# Altium footprint library Protel 99SE BANKS PCB.PCBLIB: 278 footprints (part 14 of 18)
Each footprint in its own frame and in the unit in brackets; x right, y up, seen from the top. Pads: shape width x height; smd on the part's side, far side on the other; paste and mask are expansions set on the pad; w line width, h text height; cw(c..) or ccw(c..) is an arc to the next point about the centre after c.
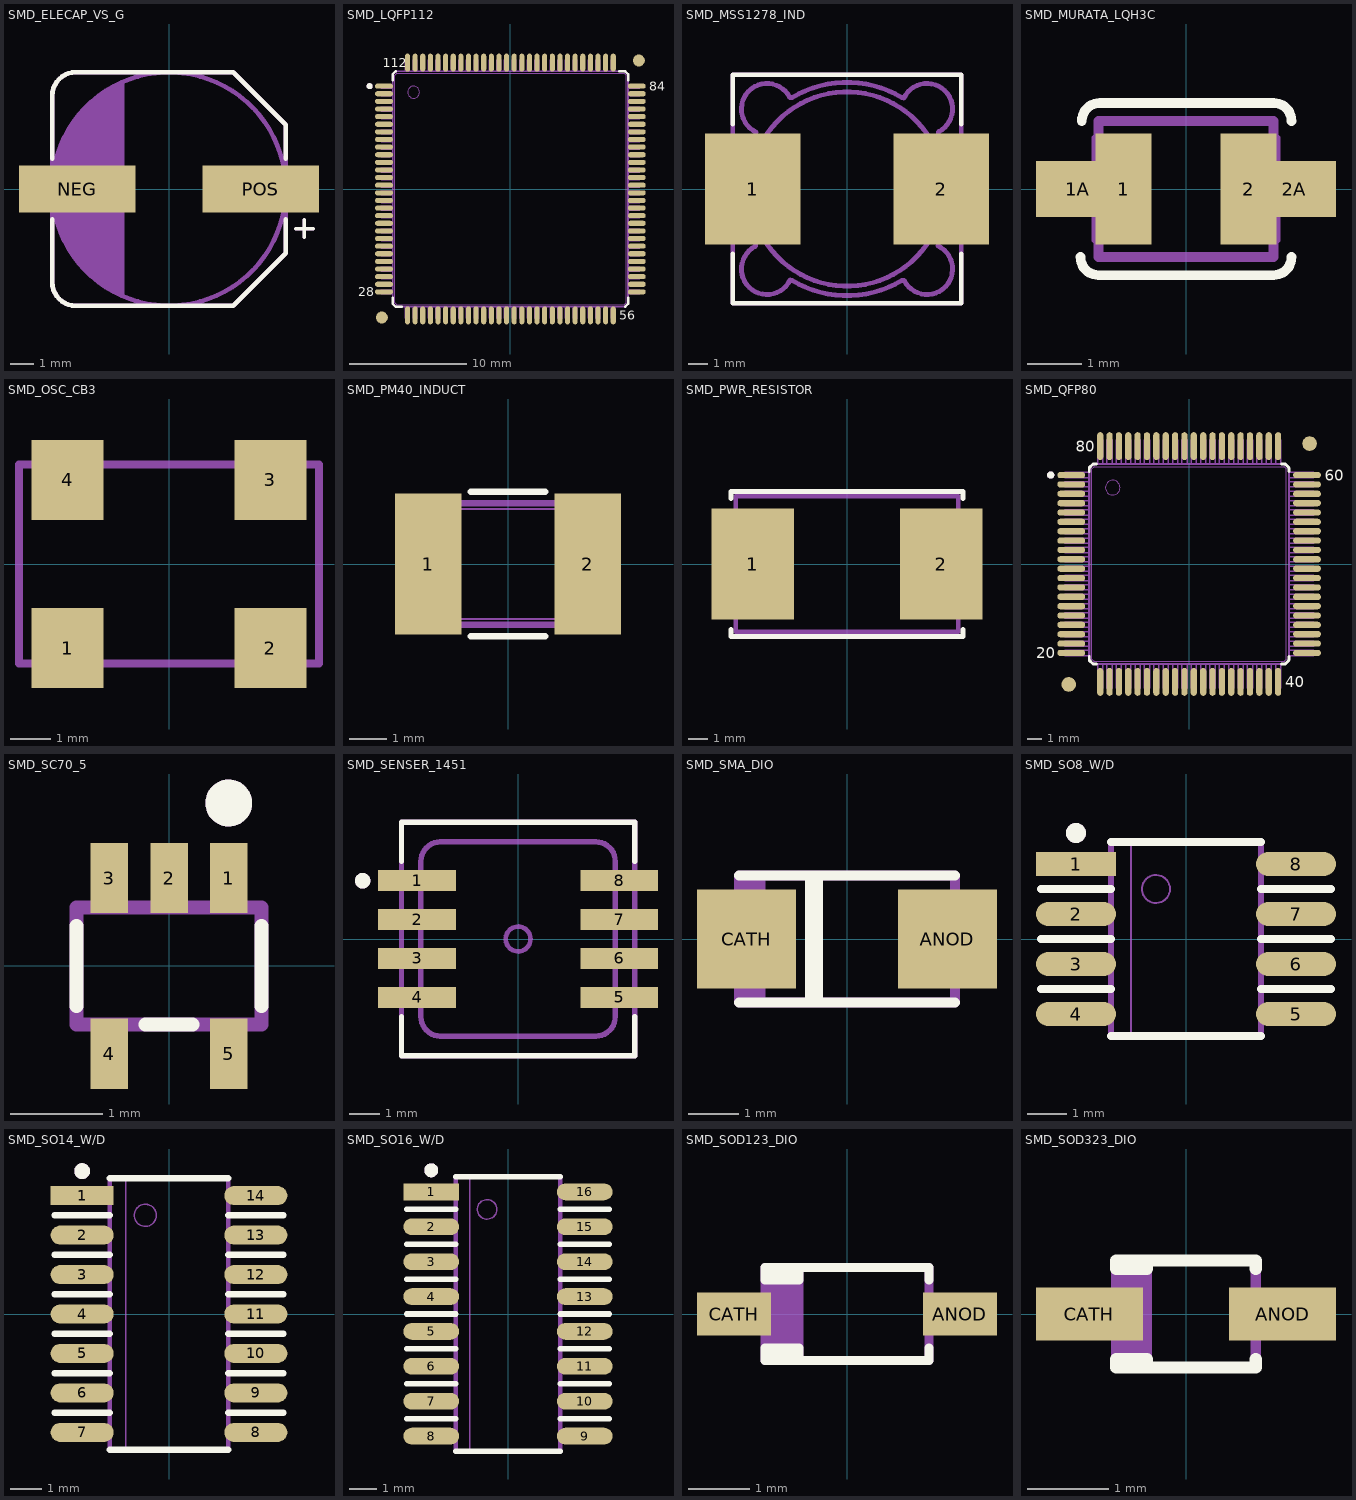
[diagram p13: the footprints below, top view; thin cyan lines are the x and y axes]

## SMD_ELECAP_VS_G [mil]
pads (2):
  rect 200x80 smd: NEG(-157,0) POS(157,0)
TopOverlay:
  lines w6: 217,-68 247,-68 ; 232,-83 232,-53
  lines w8: -200,-52 -200,-160 ccw(c-160,-160) -160,-200 110,-200 200,-110 200,-52 ; -200,52 -200,160 cw(c-160,160) -160,200 110,200 200,110 200,52
Mechanical3:
  circle w8: c0,0 r200
  lines w4: -200,-18 -227,-18 -227,18 -200,18 ; 200,-18 227,-18 227,18 200,18
  lines w6: 217,-68 247,-68 ; 232,-83 232,-53
  lines w8: -197,-32 -197,0 -197,32 ; -195,-36 -195,0 -195,36 ; -191,-45 -191,0 -191,45 ; -188,-55 -188,0 -188,55 ; -184,-66 -184,0 -184,66 ; -180,-79 -180,0 -180,79 ; -176,-89 -176,0 -176,89 ; -172,-97 -172,0 -172,97 ; -168,-104 -168,0 -168,104 ; -163,-111 -163,0 -163,111 ; -159,-116 -159,0 -159,116 ; -155,-120 -155,0 -155,120 ; -151,-126 -151,0 -151,126 ; -147,-130 -147,0 -147,130 ; -143,-135 -143,0 -143,135 ; -139,-138 -139,-1 ; -139,1 -139,138 ; -136,-142 -136,0 -136,142 ; -132,-146 -132,0 -132,146 ; -128,-149 -128,0 -128,149 ; -124,-153 -124,0 -124,153 ; -120,-156 -120,0 -120,156 ; -116,-159 -116,0 -116,159 ; -112,-161 -112,0 -112,161 ; -108,-166 -108,0 -108,166 ; -104,-167 -104,0 -104,167 ; -100,-170 -100,0 -100,170 ; -96,-173 -96,0 -96,173 ; -92,-175 -92,0 -92,175 ; -88,-176 -88,0 -88,176 ; -84,-181 -84,0 -84,181 ; -80,-182 -80,0 -80,182 ; -200,-160 ccw(c-160,-160) -160,-200 110,-200 200,-110 200,110 110,200 -160,200 ccw(c-160,160) -200,160 -200,-160

## SMD_LQFP112 [mil]
pads (114):
  oval 60x17 smd: 1(-423,344.25) 2(-423,318.75) 3(-423,293.25) 4(-423,267.75) 5(-423,242.25) 6(-423,216.75) 7(-423,191.25) 8(-423,165.75) 9(-423,140.25) 10(-423,114.75) 11(-423,89.25) 12(-423,63.75) 13(-423,38.25) 14(-423,12.75) 15(-423,-12.75) 16(-423,-38.25) 17(-423,-63.75) 18(-423,-89.25) 19(-423,-114.75) 20(-423,-140.25) 21(-423,-165.75) 22(-423,-191.25) 23(-423,-216.75) 24(-423,-242.25) 25(-423,-267.75) 26(-423,-293.25) 27(-423,-318.75) 28(-423,-344.25) 57(423,-344.25) 58(423,-318.75) 59(423,-293.25) 60(423,-267.75) 61(423,-242.25) 62(423,-216.75) 63(423,-191.25) 64(423,-165.75) 65(423,-140.25) 66(423,-114.75) 67(423,-89.25) 68(423,-63.75) 69(423,-38.25) 70(423,-12.75) 71(423,12.75) 72(423,38.25) 73(423,63.75) 74(423,89.25) 75(423,114.75) 76(423,140.25) 77(423,165.75) 78(423,191.25) 79(423,216.75) 80(423,242.25) 81(423,267.75) 82(423,293.25) 83(423,318.75) 84(423,344.25)
  oval 17x60 smd: 29(-344.25,-423) 30(-318.75,-423) 31(-293.25,-423) 32(-267.75,-423) 33(-242.25,-423) 34(-216.75,-423) 35(-191.25,-423) 36(-165.75,-423) 37(-140.25,-423) 38(-114.75,-423) 39(-89.25,-423) 40(-63.75,-423) 41(-38.25,-423) 42(-12.75,-423) 43(12.75,-423) 44(38.25,-423) 45(63.75,-423) 46(89.25,-423) 47(114.75,-423) 48(140.25,-423) 49(165.75,-423) 50(191.25,-423) 51(216.75,-423) 52(242.25,-423) 53(267.75,-423) 54(293.25,-423) 55(318.75,-423) 56(344.25,-423) 85(344.25,423) 86(318.75,423) 87(293.25,423) 88(267.75,423) 89(242.25,423) 90(216.75,423) 91(191.25,423) 92(165.75,423) 93(140.25,423) 94(114.75,423) 95(89.25,423) 96(63.75,423) 97(38.25,423) 98(12.75,423) 99(-12.75,423) 100(-38.25,423) 101(-63.75,423) 102(-89.25,423) 103(-114.75,423) 104(-140.25,423) 105(-165.75,423) 106(-191.25,423) 107(-216.75,423) 108(-242.25,423) 109(-267.75,423) 110(-293.25,423) 111(-318.75,423) 112(-344.25,423)
  round 40 smd: ""(-430,-430) ""(430,430)
TopOverlay:
  circle w8: c-471,344.25 r6
  lines w8: -475,344.25 -467,344.25 ; -471,340.25 -471,348.25 ; -394,-364 -394,-384 -384,-394 -364,-394 ; -394,364 -394,384 -384,394 ; 364,394 384,394 394,384 394,364 ; 384,-394 394,-384 394,-364
  text "112" at -428,408.25 h30
  text "28" at -510,-359 h30
  text "56" at 364,-437.75 h30
  text "84" at 464,329 h30
Mechanical3:
  drawing of 588 lines, arcs and shapes, not listed

## SMD_MSS1278_IND [mil] "Coilcraft MSS1278 SMD Inductor Series"
height 316.93
pads (2):
  rect 196.85x230 smd: 1(-195,0) 2(195,0)
TopOverlay:
  lines w10: -236.22,-133.86 -236.22,-236.22 236.22,-236.22 236.22,-133.86 ; -236.22,133.86 -236.22,236.22 236.22,236.22 236.22,133.86
Mechanical3:
  circle w10: c0,0 r200.79
  lines w10: -188.98,-118.11 ccw(c-165.35,-165.35) -117.4,-187.49 ; -188.71,-114.01 cw(c0,0) -188.71,114.01 ; -187.49,117.4 cw(c-165.35,165.35) -118.11,188.98 ; -114.01,-188.71 ccw(c0,0) 114.01,-188.71 ; -114.01,188.71 cw(c0,0) 114.01,188.71 ; 117.4,187.49 cw(c165.35,165.35) 188.98,118.11 ; 118.11,-188.98 ccw(c165.35,-165.35) 187.49,-117.4 ; 188.71,-114.01 ccw(c0,0) 188.71,114.01 ; -236.22,-236.22 -236.22,236.22 0,236.22 236.22,236.22 236.22,-236.22 0,-236.22 -236.22,-236.22

## SMD_MURATA_LQH3C [mil]
pads (4):
  rect 40x80 smd: 1(-45,0) 2(45,0)
  rect 60x40 smd: 1A(-78,0) 2A(78,0)
TopOverlay:
  lines w7: -76,-49 ccw(c-63,-49) -63,-62 63,-62 ccw(c63,-49) 76,-49 ; -75,49 cw(c-62,49) -62,62 63,62 cw(c63,49) 76,49
Mechanical3:
  lines w4: -61,-37 -66,-37 -66,37 -61,37 ; 61,-37 66,-37 66,37 61,37
  lines w7: -63,-49 -63,49 63,49 63,-49 -63,-49

## SMD_OSC_CB3 [mil]
pads (4):
  rect 71x79 smd: 1(-100,-83) 2(100,-83) 3(100,83) 4(-100,83)
Mechanical3:
  lines w8: -148,-98 148,-98 148,98 -148,98 -148,-98

## SMD_PM40_INDUCT [mil]
pads (2):
  rect 70x148 smd: 1(-84,0) 2(84,0)
TopOverlay:
  lines w7: -39,-76 39,-76 ; -39,76 39,76
Mechanical3:
  lines w2: -89,-64 -80,-58 ; -89,64 -80,58 ; 89,-64 80,-58 ; 89,64 80,58 ; -80,-58 80,-58 ; -80,-58 -80,58 ; -80,58 80,58 ; 80,-58 80,58
  lines w7: -89,-64 -89,64 89,64 89,-64 -89,-64

## SMD_PWR_RESISTOR [mil]
pads (2):
  rect 170x230 smd: 1(-195,0) 2(195,0)
TopOverlay:
  lines w10: -240,-135 -240,-150 240,-150 240,-135 ; -240,135 -240,150 240,150 240,135
Mechanical3:
  lines w10: -230,-140 230,-140 230,140 0,140 -230,140 -230,-140

## SMD_QFP80 [mil]
pads (82):
  oval 76x17 smd: 1(-321,242.25) 2(-321,216.75) 3(-321,191.25) 4(-321,165.75) 5(-321,140.25) 6(-321,114.75) 7(-321,89.25) 8(-321,63.75) 9(-321,38.25) 10(-321,12.75) 11(-321,-12.75) 12(-321,-38.25) 13(-321,-63.75) 14(-321,-89.25) 15(-321,-114.75) 16(-321,-140.25) 17(-321,-165.75) 18(-321,-191.25) 19(-321,-216.75) 20(-321,-242.25) 41(321,-242.25) 42(321,-216.75) 43(321,-191.25) 44(321,-165.75) 45(321,-140.25) 46(321,-114.75) 47(321,-89.25) 48(321,-63.75) 49(321,-38.25) 50(321,-12.75) 51(321,12.75) 52(321,38.25) 53(321,63.75) 54(321,89.25) 55(321,114.75) 56(321,140.25) 57(321,165.75) 58(321,191.25) 59(321,216.75) 60(321,242.25)
  oval 17x76 smd: 21(-242.25,-321) 22(-216.75,-321) 23(-191.25,-321) 24(-165.75,-321) 25(-140.25,-321) 26(-114.75,-321) 27(-89.25,-321) 28(-63.75,-321) 29(-38.25,-321) 30(-12.75,-321) 31(12.75,-321) 32(38.25,-321) 33(63.75,-321) 34(89.25,-321) 35(114.75,-321) 36(140.25,-321) 37(165.75,-321) 38(191.25,-321) 39(216.75,-321) 40(242.25,-321) 61(242.25,321) 62(216.75,321) 63(191.25,321) 64(165.75,321) 65(140.25,321) 66(114.75,321) 67(89.25,321) 68(63.75,321) 69(38.25,321) 70(12.75,321) 71(-12.75,321) 72(-38.25,321) 73(-63.75,321) 74(-89.25,321) 75(-114.75,321) 76(-140.25,321) 77(-165.75,321) 78(-191.25,321) 79(-216.75,321) 80(-242.25,321)
  round 40 smd: ""(-328,-328) ""(328,328)
TopOverlay:
  circle w8: c-377,242.25 r6
  lines w8: -381,242.25 -373,242.25 ; -377,238.25 -377,246.25 ; -272,-252 -272,-262 -262,-272 -252,-272 ; -272,252 -272,262 -262,272 -252,272 ; 252,-272 262,-272 272,-262 272,-252 ; 252,272 262,272 272,262 272,252
  text "60" at 370,227 h30
  text "40" at 262,-336 h30
  text "80" at -309,306 h30
  text "20" at -417,-257 h30
Mechanical3:
  drawing of 428 lines, arcs and shapes, not listed

## SMD_SC70_5 [mil]
pads (5):
  rect 16x30 smd: 1(25.5,37.5) 2(0,37.5) 3(-25.5,37.5) 4(-25.5,-37.5) 5(25.5,-37.5)
TopOverlay:
  circle w8: c25.5,69.5 r6
  lines w6: -39.5,-17 -39.5,17 ; -10,-25 10,-25 ; 39.5,-17 39.5,17
  lines w8: 21.5,69.5 29.5,69.5 ; 25.5,65.5 25.5,73.5
Mechanical3:
  circle w8: c25.5,69.5 r6
  lines w2: -31.5,-37.5 -19.5,-37.5 ; -31.5,-25 -31.5,-47 -19.5,-47 -19.5,-25 ; -31.5,25 -31.5,47 -19.5,47 -19.5,25 ; -31.5,37.5 -19.5,37.5 ; -28,-32.5 -23,-32.5 ; -28,32.5 -23,32.5 ; -6,25 -6,47 6,47 6,25 ; -6,37.5 6,37.5 ; -2.5,32.5 2.5,32.5 ; 19.5,-37.5 31.5,-37.5 ; 19.5,-25 19.5,-47 31.5,-47 31.5,-25 ; 19.5,25 19.5,47 31.5,47 31.5,25 ; 19.5,37.5 31.5,37.5 ; 23,-32.5 28,-32.5 ; 23,32.5 28,32.5
  lines w6: -39.5,-25 -39.5,25 39.5,25 39.5,-25 -39.5,-25
  lines w8: 21.5,69.5 29.5,69.5 ; 25.5,65.5 25.5,73.5

## SMD_SENSER_1451 [mil]
pads (8):
  rect 100x27 smd: 1(-130,75) 2(-130,25) 3(-130,-25) 4(-130,-75) 5(130,-75) 6(130,-25) 7(130,25) 8(130,75)
TopOverlay:
  circle w8: c-200,75 r6
  lines w7: -150,-100 -150,-150 150,-150 150,-100 ; -150,100 -150,150 150,150 150,100
  lines w8: -204,75 -196,75 ; -200,71 -200,79
Mechanical3:
  circle w8: c-200,75 r6
  circle w6: c0,0 r16
  lines w7: -150,-150 150,-150 150,-82.5 cw(c150,-75) 150,-67.5 150,-32.5 cw(c150,-25) 150,-17.5 150,17.5 cw(c150,25) 150,32.5 150,67.5 cw(c150,75) 150,82.5 150,150 -150,150 -150,82.5 cw(c-150,75) -150,67.5 -150,32.5 cw(c-150,25) -150,17.5 -150,-17.5 cw(c-150,-25) -150,-32.5 -150,-67.5 cw(c-150,-75) -150,-82.5 -150,-150 ; -125,-100 ccw(c-100,-100) -100,-125 100,-125 ccw(c100,-100) 125,-100 125,100 ccw(c100,100) 100,125 -100,125 ccw(c-100,100) -125,100 -125,-100
  lines w8: -204,75 -196,75 ; -200,71 -200,79

## SMD_SMA_DIO [mil]
pads (2):
  rect 78x78 smd: ANOD(79,0) CATH(-79,0)
TopOverlay:
  lines w8: -85,-50 85,-50 ; -85,50 85,50 ; -29,-50 -29,50 ; -23,-50 -23,50
Mechanical3:
  lines w4: -85,-29 -100,-29 -100,29 -85,29 ; 85,-29 100,-29 100,29 85,29
  lines w8: -80,-49 -80,50 ; -76,-50 -76,50 ; -72,-50 -72,50 ; -68,-50 -68,50 ; -85,-50 -85,50 85,50 85,-50 -85,-50

## SMD_SO8_W/D [mil]
pads (8):
  rect 80x24 smd: 1(-110,75)
  oval 80x24 smd: 2(-110,25) 3(-110,-25) 4(-110,-75) 5(110,-75) 6(110,-25) 7(110,25) 8(110,75)
TopOverlay:
  circle w8: c-110,106 r6
  lines w8: -145,-50 -75,-50 ; -145,0 -75,0 ; -145,50 -75,50 ; -114,106 -106,106 ; -110,102 -110,110 ; -75,-97 75,-97 ; -75,97 75,97 ; 75,-50 145,-50 ; 75,0 145,0 ; 75,50 145,50
Mechanical3:
  circle w8: c-110,106 r6
  circle w2: c-30,50 r14
  lines w2: -90,-78 -90,-72 ; -90,-28 -90,-22 ; -90,22 -90,28 ; -90,72 -90,78 ; -55,-97 -55,97 ; 90,-78 90,-72 ; 90,-28 90,-22 ; 90,22 90,28 ; 90,72 90,78
  lines w4: -100,-83 -100,-67 ; -100,-33 -100,-17 ; -100,17 -100,33 ; -100,67 -100,83 ; -75,-83 -120,-83 -120,-67 -75,-67 ; -75,-33 -120,-33 -120,-17 -75,-17 ; -75,17 -120,17 -120,33 -75,33 ; -75,67 -120,67 -120,83 -75,83 ; 75,-83 120,-83 120,-67 75,-67 ; 75,-33 120,-33 120,-17 75,-17 ; 75,17 120,17 120,33 75,33 ; 75,67 120,67 120,83 75,83 ; 100,-83 100,-67 ; 100,-33 100,-17 ; 100,17 100,33 ; 100,67 100,83
  lines w6: -75,-97 75,-97 75,97 -75,97 -75,-97
  lines w8: -114,106 -106,106 ; -110,102 -110,110

## SMD_SO14_W/D [mil]
pads (14):
  rect 80x24 smd: 1(-110,150)
  oval 80x24 smd: 2(-110,100) 3(-110,50) 4(-110,0) 5(-110,-50) 6(-110,-100) 7(-110,-150) 8(110,-150) 9(110,-100) 10(110,-50) 11(110,0) 12(110,50) 13(110,100) 14(110,150)
TopOverlay:
  circle w8: c-110,181 r6
  lines w8: -145,-125 -75,-125 ; -145,-75 -75,-75 ; -145,-25 -75,-25 ; -145,25 -75,25 ; -145,75 -75,75 ; -145,125 -75,125 ; -114,181 -106,181 ; -110,177 -110,185 ; -75,-172 75,-172 ; -75,172 75,172 ; 75,-125 145,-125 ; 75,-75 145,-75 ; 75,-25 145,-25 ; 75,25 145,25 ; 75,75 145,75 ; 75,125 145,125
Mechanical3:
  circle w2: c-30,125 r14
  circle w8: c-110,181 r6
  lines w2: -90,-153 -90,-147 ; -90,-103 -90,-97 ; -90,-53 -90,-47 ; -90,-3 -90,3 ; -90,47 -90,53 ; -90,97 -90,103 ; -90,147 -90,153 ; -55,-172 -55,172 ; 90,-153 90,-147 ; 90,-103 90,-97 ; 90,-53 90,-47 ; 90,-3 90,3 ; 90,47 90,53 ; 90,97 90,103 ; 90,147 90,153
  lines w4: -100,-158 -100,-142 ; -100,-108 -100,-92 ; -100,-58 -100,-42 ; -100,-8 -100,8 ; -100,42 -100,58 ; -100,92 -100,108 ; -100,142 -100,158 ; -75,-158 -120,-158 -120,-142 -75,-142 ; -75,-108 -120,-108 -120,-92 -75,-92 ; -75,-58 -120,-58 -120,-42 -75,-42 ; -75,-8 -120,-8 -120,8 -75,8 ; -75,42 -120,42 -120,58 -75,58 ; -75,92 -120,92 -120,108 -75,108 ; -75,142 -120,142 -120,158 -75,158 ; 75,-158 120,-158 120,-142 75,-142 ; 75,-108 120,-108 120,-92 75,-92 ; 75,-58 120,-58 120,-42 75,-42 ; 75,-8 120,-8 120,8 75,8 ; 75,42 120,42 120,58 75,58 ; 75,92 120,92 120,108 75,108 ; 75,142 120,142 120,158 75,158 ; 100,-158 100,-142 ; 100,-108 100,-92 ; 100,-58 100,-42 ; 100,-8 100,8 ; 100,42 100,58 ; 100,92 100,108 ; 100,142 100,158
  lines w6: -75,-172 75,-172 75,172 -75,172 -75,-172
  lines w8: -114,181 -106,181 ; -110,177 -110,185

## SMD_SO16_W/D [mil]
pads (16):
  rect 80x24 smd: 1(-110,175)
  oval 80x24 smd: 2(-110,125) 3(-110,75) 4(-110,25) 5(-110,-25) 6(-110,-75) 7(-110,-125) 8(-110,-175) 9(110,-175) 10(110,-125) 11(110,-75) 12(110,-25) 13(110,25) 14(110,75) 15(110,125) 16(110,175)
TopOverlay:
  circle w8: c-110,206 r6
  lines w8: -145,-150 -75,-150 ; -145,-100 -75,-100 ; -145,-50 -75,-50 ; -145,0 -75,0 ; -145,50 -75,50 ; -145,100 -75,100 ; -145,150 -75,150 ; -114,206 -106,206 ; -110,202 -110,210 ; -75,-197 75,-197 ; -75,197 75,197 ; 75,-150 145,-150 ; 75,-100 145,-100 ; 75,-50 145,-50 ; 75,0 145,0 ; 75,50 145,50 ; 75,100 145,100 ; 75,150 145,150
Mechanical3:
  circle w8: c-110,206 r6
  circle w2: c-30,150 r14
  lines w2: -90,-178 -90,-172 ; -90,-128 -90,-122 ; -90,-78 -90,-72 ; -90,-28 -90,-22 ; -90,22 -90,28 ; -90,72 -90,78 ; -90,122 -90,128 ; -90,172 -90,178 ; -55,-197 -55,197 ; 90,-178 90,-172 ; 90,-128 90,-122 ; 90,-78 90,-72 ; 90,-28 90,-22 ; 90,22 90,28 ; 90,72 90,78 ; 90,122 90,128 ; 90,172 90,178
  lines w4: -100,-183 -100,-167 ; -100,-133 -100,-117 ; -100,-83 -100,-67 ; -100,-33 -100,-17 ; -100,17 -100,33 ; -100,67 -100,83 ; -100,117 -100,133 ; -100,167 -100,183 ; -75,-183 -120,-183 -120,-167 -75,-167 ; -75,-133 -120,-133 -120,-117 -75,-117 ; -75,-83 -120,-83 -120,-67 -75,-67 ; -75,-33 -120,-33 -120,-17 -75,-17 ; -75,17 -120,17 -120,33 -75,33 ; -75,67 -120,67 -120,83 -75,83 ; -75,117 -120,117 -120,133 -75,133 ; -75,167 -120,167 -120,183 -75,183 ; 75,-183 120,-183 120,-167 75,-167 ; 75,-133 120,-133 120,-117 75,-117 ; 75,-83 120,-83 120,-67 75,-67 ; 75,-33 120,-33 120,-17 75,-17 ; 75,17 120,17 120,33 75,33 ; 75,67 120,67 120,83 75,83 ; 75,117 120,117 120,133 75,133 ; 75,167 120,167 120,183 75,183 ; 100,-183 100,-167 ; 100,-133 100,-117 ; 100,-83 100,-67 ; 100,-33 100,-17 ; 100,17 100,33 ; 100,67 100,83 ; 100,117 100,133 ; 100,167 100,183
  lines w6: -75,-197 75,-197 75,197 -75,197 -75,-197
  lines w8: -114,206 -106,206 ; -110,202 -110,210

## SMD_SOD123_DIO [mil]
pads (2):
  rect 48x28 smd: ANOD(73,0) CATH(-73,0)
TopOverlay:
  lines w6: -52,-26 -32,-26 ; -52,26 -32,26 ; -31,-30 -31,-22 -53,-22 -53,-30 53,-30 53,-22 ; -31,30 -31,22 -53,22 -53,30 53,30 53,22
Mechanical3:
  rectangle: -53,-30 -31,30
  lines w2: -64,-11 -64,11 ; -60,-4 -60,5 ; -53,-11 -73,-11 -73,11 -53,11 ; 53,-11 73,-11 73,11 53,11 ; 60,-4 60,5 ; 64,-11 64,11
  lines w6: -31,-30 -31,30 ; -53,-30 53,-30 53,30 -53,30 -53,-30

## SMD_SOD323_DIO [mil]
pads (2):
  rect 52x26 smd: ANOD(47,0) CATH(-47,0)
TopOverlay:
  lines w6: -33,24 -21,24 ; -32,-24 -20,-24 ; -19,-26 -19,-22 -34,-22 -34,-26 34,-26 34,-22 ; -19,26 -19,22 -34,22 -34,26 34,26 34,22
Mechanical3:
  rectangle: -34,-26 -19,26
  lines w2: -44,-6 -44,6 ; -40,-2 -40,2 ; -34,-6 -50,-6 -50,6 -34,6 ; 34,-6 50,-6 50,6 34,6 ; 40,-2 40,2 ; 44,-6 44,6
  lines w5: -19,-26 -19,26 ; -34,-26 34,-26 34,26 -34,26 -34,-26